# EAGLE library part MSP430G2132IPW14 (library msp)
MIXED SIGNAL MICROCONTROLLER
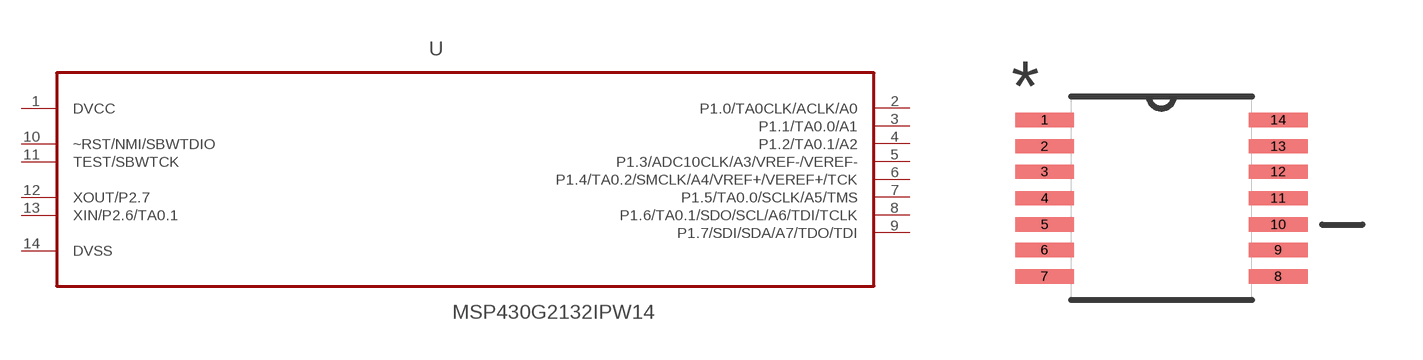
[diagram p0: symbol with the pads of SOP65P640X120-14N; footprint SOP65P640X120-14N]

Designator prefix U

## MSP430G2132IPW14 (MPN: MSP430G2132IPW14; OC_FARNELL: 1866848; OC_NEWARK: 24T4642; PACKAGE: TSSOP-14; SUPPLIER: Texas Instruments)  [SOP65P640X120-14N]
1  DVCC  pwr
2  P1.0/TA0CLK/ACLK/A0
3  P1.1/TA0.0/A1
4  P1.2/TA0.1/A2
5  P1.3/ADC10CLK/A3/VREF-/VEREF-
6  P1.4/TA0.2/SMCLK/A4/VREF+/VEREF+/TCK
7  P1.5/TA0.0/SCLK/A5/TMS
8  P1.6/TA0.1/SDO/SCL/A6/TDI/TCLK
9  P1.7/SDI/SDA/A7/TDO/TDI
10  ~RST/NMI/SBWTDIO  in
11  TEST/SBWTCK  in
12  XOUT/P2.7
13  XIN/P2.6/TA0.1
14  DVSS  pwr

## Footprint SOP65P640X120-14N (pad centres in mm)
smd 1.473 x 0.356: 1 -2.921,1.956; 2 -2.921,1.295; 3 -2.921,0.66; 4 -2.921,0; 5 -2.921,-0.66; 6 -2.921,-1.295; 7 -2.921,-1.956; 8 2.921,-1.956; 9 2.921,-1.295; 10 2.921,-0.66; 11 2.921,0; 12 2.921,0.66; 13 2.921,1.295; 14 2.921,1.956